# Altium footprint library CUI Inc.PcbLib: 4 footprints
Each footprint in its own frame and in the unit in brackets; x right, y up, seen from the top. Pads: shape width x height; smd on the part's side, far side on the other; paste and mask are expansions set on the pad; w line width, h text height; cw(c..) or ccw(c..) is an arc to the next point about the centre after c.
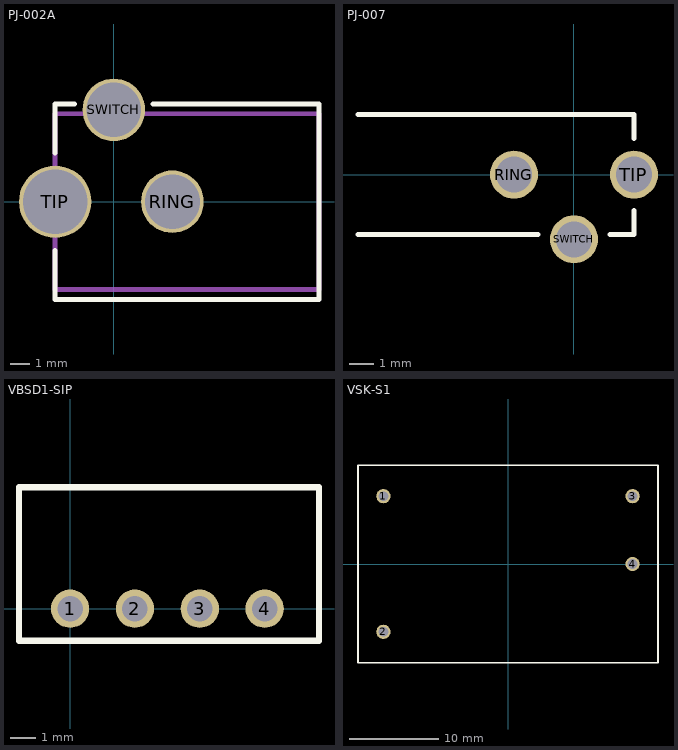
[diagram p0: the footprints below, top view; thin cyan lines are the x and y axes]

## PJ-002A [mm] "DC Power Jack - Barrel Type"
height 11
pads (3):
  round 3.2 hole 2.8: RING(3,0) SWITCH(0,4.7)
  round 3.7 hole 3.3: TIP(-3,0)
Top Overlay:
  lines w0.254: -3,-2.5 -3,-5 10.5,-5 10.5,5 2,5 ; -3,2.5 -3,5 -2,5
Mechanical 13:
  lines w0.254: -3,-4.5 -3,4.5 10.5,4.5 10.5,-4.5 -3,-4.5
3D body: height 11, standoff -3.5, extent -4,-4.5 10.5,4.5

## PJ-007 [mm] "Power Jack 1.3mm ID, 3.5mm OD"
height 7.4
pads (3):
  round 2 hole 1.5: RING(-2.5,0) SWITCH(0,-2.7) TIP(2.5,0)
Top Overlay:
  lines w0.2: -9,-2.5 -1.5,-2.5 ; -9,2.5 2.5,2.5 2.5,1.5 ; 1.5,-2.5 2.5,-2.5 2.5,-1.5
3D body: height 7.4, standoff 0, extent -9,-2.5 2.5,2.5

## VBSD1-SIP [mm] "Potted DC-DC converter"
pads (4):
  round 1.5 hole 1: 1(0,0) 2(2.54,0) 3(5.08,0) 4(7.62,0)
Top Overlay:
  lines w0.254: -2,-1.25 -2,4.75 9.75,4.75 9.75,-1.25 -2,-1.25
3D body: height 10, standoff 0, extent -2,-1.25 9.75,4.75

## VSK-S1 [mm] "AC-DC converter"
height 18
pads (4):
  round 1.6 hole 1.1: 1(-14,7.62) 2(-14,-7.62) 3(14,7.62) 4(14,0)
Top Overlay:
  lines w0.2: -16.85,-11.1 -16.85,11.1 16.85,11.1 16.85,-11.1 -16.85,-11.1
3D body: height 18, standoff 0, extent -16.85,-11.1 16.85,11.1